# Altium footprint library Interface_I2C.PcbLib: 99 footprints (part 6 of 7)
Each footprint in its own frame and in the unit in brackets; x right, y up, seen from the top. Pads: shape width x height; smd on the part's side, far side on the other; paste and mask are expansions set on the pad; w line width, h text height; cw(c..) or ccw(c..) is an arc to the next point about the centre after c.
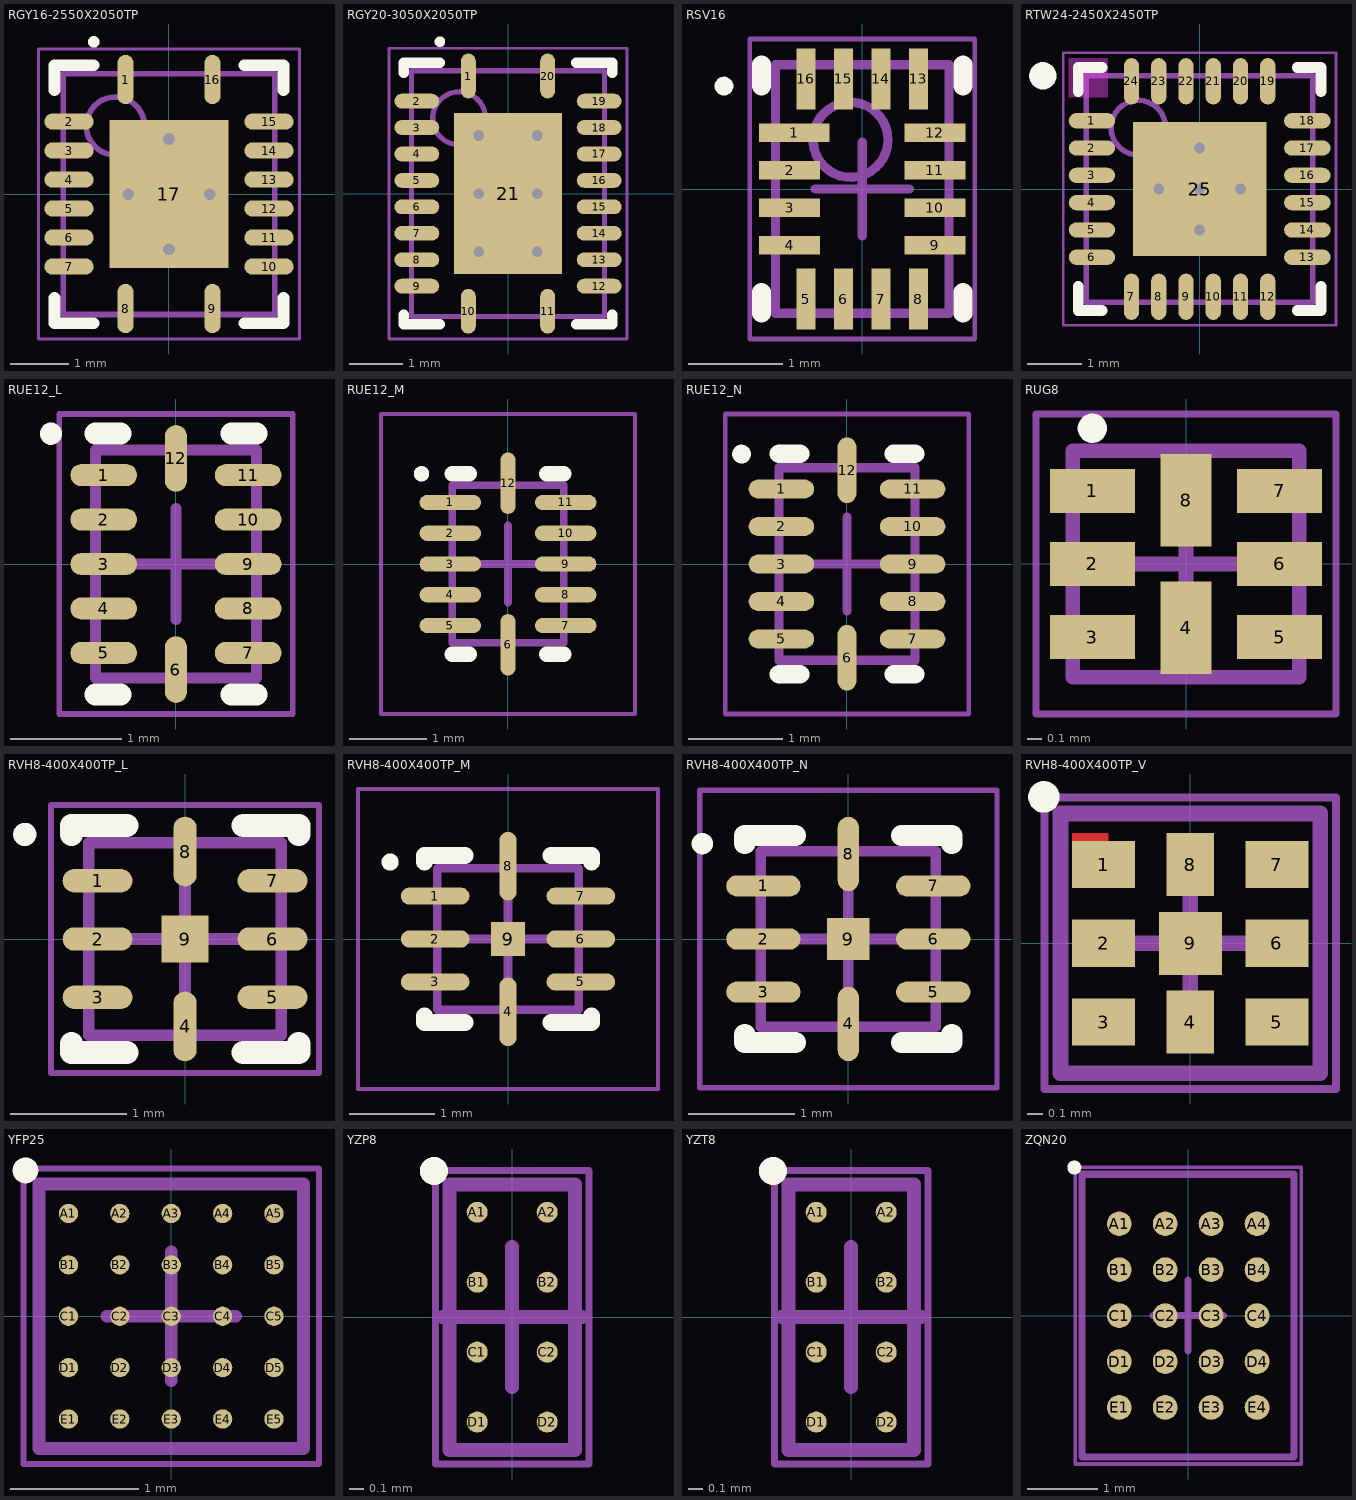
[diagram p5: the footprints below, top view; thin cyan lines are the x and y axes]

## RGY16-2550X2050TP [mm] "QFN, 16-Leads, Body 4x3.5mm, Pitch 0.5mm, Thermal Pad 2.55x2.05mm, TI Recommended"
height 1
pads (17):
  oval 0.28x0.85 smd paste-0.025 mask+0.07: 1(-0.75,1.975) 8(-0.75,-1.975) 9(0.75,-1.975) 16(0.75,1.975)
  oval 0.85x0.28 smd paste-0.025 mask+0.07: 2(-1.725,1.25) 3(-1.725,0.75) 4(-1.725,0.25) 5(-1.725,-0.25) 6(-1.725,-0.75) 7(-1.725,-1.25) 10(1.725,-1.25) 11(1.725,-0.75) 12(1.725,-0.25) 13(1.725,0.25) 14(1.725,0.75) 15(1.725,1.25)
  rect 2.05x2.55 smd paste-1.025 mask+0.07: 17(0,0)
via 0,0.95 diameter 0.5 hole 0.2
via -0.7,0 diameter 0.5 hole 0.2
via 0.7,0 diameter 0.5 hole 0.2
via 0,-0.95 diameter 0.5 hole 0.2
Top Overlay:
  circle w0.1: c-1.297,2.625 r0.05
  lines w0.2: -1.975,-1.79 -1.975,-2.225 -1.3,-2.225 ; -1.975,1.79 -1.975,2.225 -1.3,2.225 ; 1.3,-2.225 1.975,-2.225 1.975,-1.79 ; 1.3,2.225 1.975,2.225 1.975,1.79
Top Paste:
  region: -0.97,1.22 -0.97,0.15 -0.15,0.15 -0.15,1.22
  region: 0.97,-1.22 0.97,-0.15 0.15,-0.15 0.15,-1.22
  region: -0.15,-1.22 -0.15,-0.15 -0.97,-0.15 -0.97,-1.22
  region: 0.15,1.22 0.15,0.15 0.97,0.15 0.97,1.22
Mechanical 13:
  circle w0.1: c-0.925,1.175 r0.5
  lines w0.1: -1.825,-2.075 1.825,-2.075 1.825,2.075 -1.825,2.075 -1.825,-2.075
Mechanical 15:
  lines w0.05: -2.25,-2.5 2.25,-2.5 2.25,2.5 -2.25,2.5 -2.25,-2.5
  lines w0.1: -0.5,0 0.5,0 ; 0,-0.5 0,0.5
3D body: height 1, standoff 0, extent -1.825,-2.075 1.825,2.075

## RGY20-3050X2050TP [mm] "QFN, 20-Leads, Body 4.5x3.5mm, Pitch 0.5mm, Thermal Pad 3.05x2.05mm, TI Recommended"
height 1
pads (21):
  oval 0.28x0.85 smd paste-0.025 mask+0.07: 1(-0.75,2.225) 10(-0.75,-2.225) 11(0.75,-2.225) 20(0.75,2.225)
  oval 0.85x0.28 smd paste-0.025 mask+0.07: 2(-1.725,1.75) 3(-1.725,1.25) 4(-1.725,0.75) 5(-1.725,0.25) 6(-1.725,-0.25) 7(-1.725,-0.75) 8(-1.725,-1.25) 9(-1.725,-1.75) 12(1.725,-1.75) 13(1.725,-1.25) 14(1.725,-0.75) 15(1.725,-0.25) 16(1.725,0.25) 17(1.725,0.75) 18(1.725,1.25) 19(1.725,1.75)
  rect 2.05x3.05 smd paste-1.025 mask+0.07: 21(0,0)
via -0.55,1.1 diameter 0.5 hole 0.2
via -0.55,0 diameter 0.5 hole 0.2
via -0.55,-1.1 diameter 0.5 hole 0.2
via 0.55,1.1 diameter 0.5 hole 0.2
via 0.55,0 diameter 0.5 hole 0.2
via 0.55,-1.1 diameter 0.5 hole 0.2
Top Overlay:
  circle w0.1: c-1.288,2.875 r0.05
  lines w0.2: -1.975,-2.29 -1.975,-2.475 -1.29,-2.475 ; -1.975,2.29 -1.975,2.475 -1.29,2.475 ; 1.29,-2.475 1.975,-2.475 1.975,-2.29 ; 1.29,2.475 1.975,2.475 1.975,2.29
Top Paste:
  region: -0.15,-1.47 -0.15,-0.15 -0.97,-0.15 -0.97,-1.47
  region: 0.97,-1.47 0.97,-0.15 0.15,-0.15 0.15,-1.47
  region: 0.15,1.47 0.15,0.15 0.97,0.15 0.97,1.47
  region: -0.97,1.47 -0.97,0.15 -0.15,0.15 -0.15,1.47
Mechanical 13:
  circle w0.1: c-0.925,1.425 r0.5
  lines w0.1: -1.825,-2.325 1.825,-2.325 1.825,2.325 -1.825,2.325 -1.825,-2.325
Mechanical 15:
  lines w0.05: -2.25,-2.75 2.25,-2.75 2.25,2.75 -2.25,2.75 -2.25,-2.75
  lines w0.1: -0.5,0 0.5,0 ; 0,-0.5 0,0.5
3D body: height 1, standoff 0, extent -1.825,-2.325 1.825,2.325

## RSV16 [mm] "QFN, 16-Leads, Body 1.8x2.6mm, Pitch 0.4mm, TI Recommended"
height 0.55
pads (16):
  rect 0.75x0.2 smd paste-0.1 mask+0.05: 1(-0.725,0.6)
  rect 0.65x0.2 smd paste-0.1 mask+0.05: 2(-0.775,0.2) 3(-0.775,-0.2) 4(-0.775,-0.6) 9(0.775,-0.6) 10(0.775,-0.2) 11(0.775,0.2) 12(0.775,0.6)
  rect 0.2x0.65 smd paste-0.1 mask+0.05: 5(-0.6,-1.175) 6(-0.2,-1.175) 7(0.2,-1.175) 8(0.6,-1.175) 13(0.6,1.175) 14(0.2,1.175) 15(-0.2,1.175) 16(-0.6,1.175)
Top Overlay:
  circle w0.1: c-1.475,1.098 r0.05
  lines w0.2: -1.075,-1.325 -1.075,-1.1 ; -1.075,1.1 -1.075,1.325 ; 1.075,-1.325 1.075,-1.1 ; 1.075,1.1 1.075,1.325
Top Paste:
  rectangle: -1.1,0.08 -0.45,0.32
  rectangle: -1.1,-0.32 -0.45,-0.08
  rectangle: -1.1,-0.72 -0.45,-0.48
  rectangle: 0.45,0.48 1.1,0.72
  rectangle: 0.45,0.08 1.1,0.32
  rectangle: 0.45,-0.32 1.1,-0.08
  rectangle: 0.45,-0.72 1.1,-0.48
  region: 0.72,-1.5 0.72,-0.85 0.48,-0.85 0.48,-1.5
  region: 0.32,-1.5 0.32,-0.85 0.08,-0.85 0.08,-1.5
  region: -0.08,-1.5 -0.08,-0.85 -0.32,-0.85 -0.32,-1.5
  region: -0.48,-1.5 -0.48,-0.85 -0.72,-0.85 -0.72,-1.5
  region: -0.48,0.85 -0.48,1.5 -0.72,1.5 -0.72,0.85
  region: -0.08,0.85 -0.08,1.5 -0.32,1.5 -0.32,0.85
  region: 0.32,0.85 0.32,1.5 0.08,1.5 0.08,0.85
  region: 0.72,0.85 0.72,1.5 0.48,1.5 0.48,0.85
  region: -0.35,0.72 -1.1,0.72 -1.1,0.48 -0.35,0.48
Mechanical 13:
  circle w0.1: c-0.125,0.525 r0.4
  lines w0.1: -0.925,-1.325 0.925,-1.325 0.925,1.325 -0.925,1.325 -0.925,-1.325
Mechanical 15:
  lines w0.05: -1.2,-1.6 1.2,-1.6 1.2,1.6 -1.2,1.6 -1.2,-1.6
  lines w0.1: -0.5,0 0.5,0 ; 0,-0.5 0,0.5
3D body: height 0.55, standoff 0, extent -0.925,-1.325 0.925,1.325

## RTW24-2450X2450TP [mm] "QFN, 24-Leads, Body 4x4mm, Pitch 0.5mm, Thermal Pad 2.45x2.45mm, TI Recommended"
height 0.8
pads (25):
  oval 0.85x0.28 smd mask+0.07: 1(-1.975,1.25) 2(-1.975,0.75) 3(-1.975,0.25) 4(-1.975,-0.25) 5(-1.975,-0.75) 6(-1.975,-1.25) 13(1.975,-1.25) 14(1.975,-0.75) 15(1.975,-0.25) 16(1.975,0.25) 17(1.975,0.75) 18(1.975,1.25)
  oval 0.28x0.85 smd mask+0.07: 7(-1.25,-1.975) 8(-0.75,-1.975) 9(-0.25,-1.975) 10(0.25,-1.975) 11(0.75,-1.975) 12(1.25,-1.975) 19(1.25,1.975) 20(0.75,1.975) 21(0.25,1.975) 22(-0.25,1.975) 23(-0.75,1.975) 24(-1.25,1.975)
  rect 2.45x2.45 smd paste-1.225: 25(0,0)
via 0,-0.75 diameter 0.5 hole 0.2
via 0,0 diameter 0.5 hole 0.2
via -0.75,0 diameter 0.5 hole 0.2
via 0.75,0 diameter 0.5 hole 0.2
via 0,0.75 diameter 0.5 hole 0.2
Top Overlay:
  circle w0.25: c-2.875,2.075 r0.125
  lines w0.2: -2.225,-1.79 -2.225,-2.225 -1.79,-2.225 ; -2.225,1.79 -2.225,2.225 -1.79,2.225 ; 1.79,-2.225 2.225,-2.225 2.225,-1.79 ; 1.79,2.225 2.225,2.225 2.225,1.79
Top Paste:
  rectangle: -1.15,0.15 -0.15,1.15
  rectangle: -1.15,-1.15 -0.15,-0.15
  region: 1.15,-0.15 0.15,-0.15 0.15,-1.15 1.15,-1.15
  region: 1.15,1.15 0.15,1.15 0.15,0.15 1.15,0.15
Keep-Out Layer:
  rectangle: -2.4,1.68 -1.68,2.4
Mechanical 13:
  circle w0.1: c-1.125,1.125 r0.5
  lines w0.1: -2.075,-2.075 -2.075,2.075 2.075,2.075 2.075,-2.075 -2.075,-2.075
Mechanical 15:
  lines w0.05: -2.5,-2.5 -2.5,2.5 2.5,2.5 2.5,-2.5 -2.5,-2.5
  lines w0.1: -0.5,0 0.5,0 ; 0,-0.5 0,0.5
3D body: height 0.8, standoff 0, extent -2.074,-2.074 2.074,2.074

## RUE12_L [mm] "QFN, 12-Leads, Body 1.4x2mm, Pitch 0.4mm, IPC High Density"
height 0.4
pads (12):
  oval 0.6x0.2 smd: 1(-0.65,0.8) 2(-0.65,0.4) 3(-0.65,0) 4(-0.65,-0.4) 5(-0.65,-0.8) 7(0.65,-0.8) 8(0.65,-0.4) 9(0.65,0) 10(0.65,0.4) 11(0.65,0.8)
  oval 0.2x0.6 smd: 6(0,-0.95) 12(0,0.95)
Top Overlay:
  circle w0.1: c-1.125,1.173 r0.05
  lines w0.2: -0.725,-1.175 -0.5,-1.175 ; -0.725,1.175 -0.5,1.175 ; 0.5,-1.175 0.725,-1.175 ; 0.5,1.175 0.725,1.175
Mechanical 13:
  lines w0.1: -0.725,-1.025 -0.725,1.025 0.725,1.025 0.725,-1.025 -0.725,-1.025
Mechanical 15:
  lines w0.05: -1.05,-1.35 -1.05,1.35 1.05,1.35 1.05,-1.35 -1.05,-1.35
  lines w0.1: -0.5,0 0.5,0 ; 0,-0.5 0,0.5
3D body: height 0.4, standoff 0, extent -0.725,-1.025 0.725,1.025

## RUE12_M [mm] "QFN, 12-Leads, Body 1.4x2mm, Pitch 0.4mm, IPC Low Density"
height 0.4
pads (12):
  oval 0.8x0.2 smd: 1(-0.75,0.8) 2(-0.75,0.4) 3(-0.75,0) 4(-0.75,-0.4) 5(-0.75,-0.8) 7(0.75,-0.8) 8(0.75,-0.4) 9(0.75,0) 10(0.75,0.4) 11(0.75,0.8)
  oval 0.2x0.8 smd: 6(0,-1.05) 12(0,1.05)
Top Overlay:
  circle w0.1: c-1.125,1.173 r0.05
  lines w0.2: -0.725,-1.175 -0.5,-1.175 ; -0.725,1.175 -0.5,1.175 ; 0.5,-1.175 0.725,-1.175 ; 0.5,1.175 0.725,1.175
Mechanical 13:
  lines w0.1: -0.725,-1.025 -0.725,1.025 0.725,1.025 0.725,-1.025 -0.725,-1.025
Mechanical 15:
  lines w0.05: -1.65,-1.95 -1.65,1.95 1.65,1.95 1.65,-1.95 -1.65,-1.95
  lines w0.1: -0.5,0 0.5,0 ; 0,-0.5 0,0.5
3D body: height 0.4, standoff 0, extent -0.725,-1.025 0.725,1.025

## RUE12_N [mm] "QFN, 12-Leads, Body 1.4x2mm, Pitch 0.4mm, IPC Medium Density"
height 0.4
pads (12):
  oval 0.7x0.2 smd: 1(-0.7,0.8) 2(-0.7,0.4) 3(-0.7,0) 4(-0.7,-0.4) 5(-0.7,-0.8) 7(0.7,-0.8) 8(0.7,-0.4) 9(0.7,0) 10(0.7,0.4) 11(0.7,0.8)
  oval 0.2x0.7 smd: 6(0,-1) 12(0,1)
Top Overlay:
  circle w0.1: c-1.125,1.173 r0.05
  lines w0.2: -0.725,-1.175 -0.5,-1.175 ; -0.725,1.175 -0.5,1.175 ; 0.5,-1.175 0.725,-1.175 ; 0.5,1.175 0.725,1.175
Mechanical 13:
  lines w0.1: -0.725,-1.025 0.725,-1.025 0.725,1.025 -0.725,1.025 -0.725,-1.025
Mechanical 15:
  lines w0.05: -1.3,-1.6 1.3,-1.6 1.3,1.6 -1.3,1.6 -1.3,-1.6
  lines w0.1: -0.5,0 0.5,0 ; 0,-0.5 0,0.5
3D body: height 0.4, standoff 0, extent -0.725,-1.025 0.725,1.025

## RUG8 [mm] "QFN, 8-Leads, Body 1.5x1.5mm, Pitch 0.5mm, TI Recommended"
height 0.4
pads (8):
  rect 0.58x0.3 smd paste-0.025 mask+0.05: 1(-0.64,0.5) 2(-0.64,0) 3(-0.64,-0.5) 5(0.64,-0.5) 6(0.64,0) 7(0.64,0.5)
  rect 0.35x0.63 smd paste-0.025 mask+0.05: 4(0,-0.435) 8(0,0.435)
Top Overlay:
  circle w0.1: c-0.64,0.928 r0.05
Mechanical 13:
  lines w0.1: -0.775,-0.775 0.775,-0.775 0.775,0.775 -0.775,0.775 -0.775,-0.775
Mechanical 15:
  lines w0.05: -1.025,-1.025 1.025,-1.025 1.025,1.025 -1.025,1.025 -1.025,-1.025
  lines w0.1: -0.5,0 0.5,0 ; 0,-0.5 0,0.5
3D body: height 0.4, standoff 0, extent -0.775,-0.775 0.775,0.775

## RVH8-400X400TP_L [mm] "QFN, 8-Leads, Body 1.6x1.6mm, Pitch 0.5mm, Thermal Pad 0.4x0.4mm, IPC High Density"
height 0.4
pads (9):
  oval 0.6x0.2 smd: 1(-0.75,0.5) 2(-0.75,0) 3(-0.75,-0.5) 5(0.75,-0.5) 6(0.75,0) 7(0.75,0.5)
  oval 0.2x0.6 smd: 4(0,-0.75) 8(0,0.75)
  rect 0.4x0.4 smd: 9(0,0)
Top Overlay:
  circle w0.1: c-1.375,0.898 r0.05
  lines w0.2: -0.975,-0.9 -0.975,-0.975 -0.5,-0.975 ; -0.975,0.9 -0.975,0.975 -0.5,0.975 ; 0.5,-0.975 0.975,-0.975 0.975,-0.9 ; 0.5,0.975 0.975,0.975 0.975,0.9
Mechanical 13:
  lines w0.1: -0.825,-0.825 0.825,-0.825 0.825,0.825 -0.825,0.825 -0.825,-0.825
Mechanical 15:
  lines w0.05: -1.15,-1.15 1.15,-1.15 1.15,1.15 -1.15,1.15 -1.15,-1.15
  lines w0.1: -0.5,0 0.5,0 ; 0,-0.5 0,0.5
3D body: height 0.4, standoff 0, extent -0.825,-0.825 0.825,0.825

## RVH8-400X400TP_M [mm] "QFN, 8-Leads, Body 1.6x1.6mm, Pitch 0.5mm, Thermal Pad 0.4x0.4mm, IPC Low Density"
height 0.4
pads (9):
  oval 0.8x0.2 smd: 1(-0.85,0.5) 2(-0.85,0) 3(-0.85,-0.5) 5(0.85,-0.5) 6(0.85,0) 7(0.85,0.5)
  oval 0.2x0.8 smd: 4(0,-0.85) 8(0,0.85)
  rect 0.4x0.4 smd: 9(0,0)
Top Overlay:
  circle w0.1: c-1.375,0.898 r0.05
  lines w0.2: -0.975,-0.9 -0.975,-0.975 -0.5,-0.975 ; -0.975,0.9 -0.975,0.975 -0.5,0.975 ; 0.5,-0.975 0.975,-0.975 0.975,-0.9 ; 0.5,0.975 0.975,0.975 0.975,0.9
Mechanical 13:
  lines w0.1: -0.825,-0.825 0.825,-0.825 0.825,0.825 -0.825,0.825 -0.825,-0.825
Mechanical 15:
  lines w0.05: -1.75,-1.75 1.75,-1.75 1.75,1.75 -1.75,1.75 -1.75,-1.75
  lines w0.1: -0.5,0 0.5,0 ; 0,-0.5 0,0.5
3D body: height 0.4, standoff 0, extent -0.825,-0.825 0.825,0.825

## RVH8-400X400TP_N [mm] "QFN, 8-Leads, Body 1.6x1.6mm, Pitch 0.5mm, Thermal Pad 0.4x0.4mm, IPC Medium Density"
height 0.4
pads (9):
  oval 0.7x0.2 smd: 1(-0.8,0.5) 2(-0.8,0) 3(-0.8,-0.5) 5(0.8,-0.5) 6(0.8,0) 7(0.8,0.5)
  oval 0.2x0.7 smd: 4(0,-0.8) 8(0,0.8)
  rect 0.4x0.4 smd: 9(0,0)
Top Overlay:
  circle w0.1: c-1.375,0.898 r0.05
  lines w0.2: -0.975,-0.9 -0.975,-0.975 -0.5,-0.975 ; -0.975,0.9 -0.975,0.975 -0.5,0.975 ; 0.5,-0.975 0.975,-0.975 0.975,-0.9 ; 0.5,0.975 0.975,0.975 0.975,0.9
Mechanical 13:
  lines w0.1: -0.825,-0.825 -0.825,0.825 0.825,0.825 0.825,-0.825 -0.825,-0.825
Mechanical 15:
  lines w0.05: -1.4,-1.4 -1.4,1.4 1.4,1.4 1.4,-1.4 -1.4,-1.4
  lines w0.1: -0.5,0 0.5,0 ; 0,-0.5 0,0.5
3D body: height 0.4, standoff 0, extent -0.825,-0.825 0.825,0.825

## RVH8-400X400TP_V [mm] "PQFN, 8-Leads, Body 1.6x1.6mm, Pitch 0.5mm, Thermal Pad 0.4x0.4mm"
height 0.4
pads (9):
  rect 0.4x0.3 smd paste-0.025 mask+0.07: 1(-0.55,0.5) 2(-0.55,0) 3(-0.55,-0.5) 5(0.55,-0.5) 6(0.55,0) 7(0.55,0.5)
  rect 0.3x0.4 smd paste-0.025 mask+0.07: 4(0,-0.5) 8(0,0.5)
  rect 0.4x0.4 smd paste-0.025 mask+0.07: 9(0,0)
Top Layer:
  rectangle: -0.75,0.65 -0.52,0.7
Top Overlay:
  circle w0.1: c-0.93,0.93 r0.05
Mechanical 13:
  lines w0.1: -0.825,-0.825 0.825,-0.825 0.825,0.825 -0.825,0.825 -0.825,-0.825
Mechanical 15:
  lines w0.05: -0.925,-0.925 0.925,-0.925 0.925,0.925 -0.925,0.925 -0.925,-0.925
  lines w0.1: -0.5,0 0.5,0 ; 0,-0.5 0,0.5
3D body: height 0.4, standoff 0, extent -0.825,-0.825 0.825,0.825

## YFP25 [mm] "BGA, 25-Leads, Body 2.06x2.06mm, Pitch 0.4mm"
height 0.5
pads (25):
  round 0.15 smd: A1(-0.8,0.8) A2(-0.4,0.8) A3(0,0.8) A4(0.4,0.8) A5(0.8,0.8) B1(-0.8,0.4) B2(-0.4,0.4) B3(0,0.4) B4(0.4,0.4) B5(0.8,0.4) C1(-0.8,0) C2(-0.4,0) C3(0,0) C4(0.4,0) C5(0.8,0) D1(-0.8,-0.4) D2(-0.4,-0.4) D3(0,-0.4) D4(0.4,-0.4) D5(0.8,-0.4) E1(-0.8,-0.8) E2(-0.4,-0.8) E3(0,-0.8) E4(0.4,-0.8) E5(0.8,-0.8)
Top Overlay:
  circle w0.1: c-1.135,1.135 r0.05
Mechanical 13:
  lines w0.1: -1.03,-1.03 -1.03,1.03 1.03,1.03 1.03,-1.03 -1.03,-1.03
Mechanical 15:
  lines w0.05: -1.15,-1.15 -1.15,1.15 1.15,1.15 1.15,-1.15 -1.15,-1.15
  lines w0.1: -0.5,0 0.5,0 ; 0,-0.5 0,0.5
3D body: height 0.5, standoff 0.13, extent -1.03,-1.03 1.03,1.03

## YZP8 [mm] "BGA, 8-Leads, Body 1.9x0.9mm, Pitch 0.5mm"
height 0.5
pads (8):
  round 0.15 smd: A1(-0.25,0.75) A2(0.25,0.75) B1(-0.25,0.25) B2(0.25,0.25) C1(-0.25,-0.25) C2(0.25,-0.25) D1(-0.25,-0.75) D2(0.25,-0.75)
Top Overlay:
  circle w0.1: c-0.56,1.045 r0.05
Mechanical 13:
  lines w0.1: -0.45,-0.95 0.45,-0.95 0.45,0.95 -0.45,0.95 -0.45,-0.95
Mechanical 15:
  lines w0.05: -0.55,-1.05 0.55,-1.05 0.55,1.05 -0.55,1.05 -0.55,-1.05
  lines w0.1: -0.5,0 0.5,0 ; 0,-0.5 0,0.5
3D body: height 0.5, standoff 0.15, extent -0.45,-0.95 0.45,0.95

## YZT8 [mm] "BGA, 8-Leads, Body 1.9x0.9mm, Pitch 0.5mm"
height 0.63
pads (8):
  round 0.15 smd: A1(-0.25,0.75) A2(0.25,0.75) B1(-0.25,0.25) B2(0.25,0.25) C1(-0.25,-0.25) C2(0.25,-0.25) D1(-0.25,-0.75) D2(0.25,-0.75)
Top Overlay:
  circle w0.1: c-0.56,1.045 r0.05
Mechanical 13:
  lines w0.1: -0.45,-0.95 -0.45,0.95 0.45,0.95 0.45,-0.95 -0.45,-0.95
Mechanical 15:
  lines w0.05: -0.55,-1.05 -0.55,1.05 0.55,1.05 0.55,-1.05 -0.55,-1.05
  lines w0.1: -0.5,0 0.5,0 ; 0,-0.5 0,0.5
3D body: height 0.63, standoff 0.15, extent -0.45,-0.95 0.45,0.95

## ZQN20 [mm] "BGA, 20-Leads, Body 4x3mm, Pitch 0.65mm"
height 1
pads (20):
  round 0.35 smd: A1(-0.975,1.3) A2(-0.325,1.3) A3(0.325,1.3) A4(0.975,1.3) B1(-0.975,0.65) B2(-0.325,0.65) B3(0.325,0.65) B4(0.975,0.65) C1(-0.975,0) C2(-0.325,0) C3(0.325,0) C4(0.975,0) D1(-0.975,-0.65) D2(-0.325,-0.65) D3(0.325,-0.65) D4(0.975,-0.65) E1(-0.975,-1.3) E2(-0.325,-1.3) E3(0.325,-1.3) E4(0.975,-1.3)
Top Overlay:
  circle w0.1: c-1.61,2.095 r0.05
Mechanical 13:
  lines w0.1: -1.5,-2 -1.5,2 1.5,2 1.5,-2 -1.5,-2
Mechanical 15:
  lines w0.05: -1.6,-2.1 -1.6,2.1 1.6,2.1 1.6,-2.1 -1.6,-2.1
  lines w0.1: -0.5,0 0.5,0 ; 0,-0.5 0,0.5
3D body: height 1, standoff 0.15, extent -1.5,-2 1.5,2